# Altium footprint library IC_ST_Microelectronics_L7805CDT-TR_eec_0.PcbLib: 1 footprints
Each footprint in its own frame and in the unit in brackets; x right, y up, seen from the top. Pads: shape width x height; smd on the part's side, far side on the other; paste and mask are expansions set on the pad; w line width, h text height; cw(c..) or ccw(c..) is an arc to the next point about the centre after c.
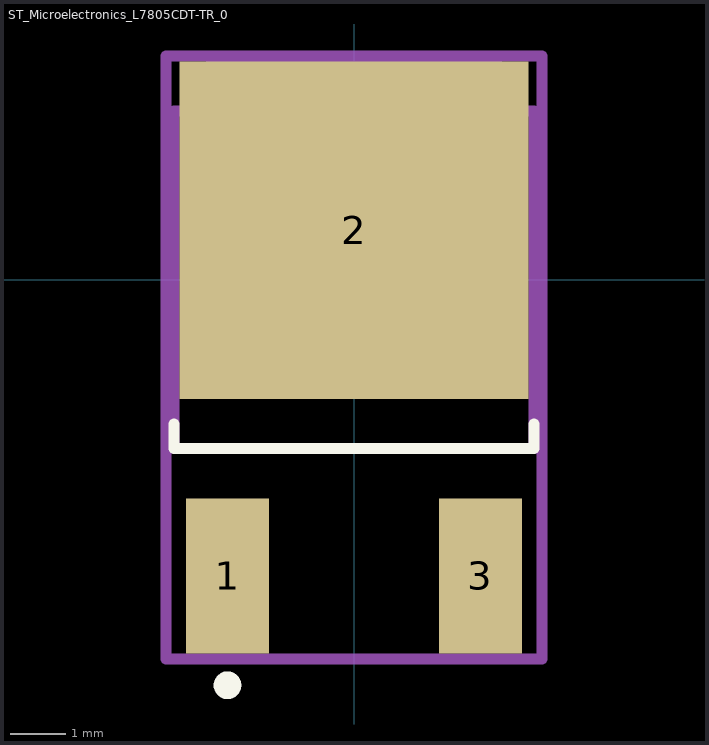
[diagram p0: the footprint, top view; thin cyan lines are the x and y axes]

## ST_Microelectronics_L7805CDT-TR_0 [mm]
pads (3):
  rect 1.5x2.8 smd paste+0 mask+0: 1(-2.286,-5.35) 3(2.286,-5.35)
  rect 6.3x6.1 smd paste+0 mask+0: 2(0,0.9)
Top Overlay:
  circle w0.25: c-2.286,-7.325 r0.125
  lines w0.2: -3.25,-2.6 -3.25,-3.05 3.25,-3.05 ; 3.25,-3.01 3.25,-2.6
Mechanical 10:
  lines w0.2: -3.4,-6.85 3.4,-6.85 3.4,4.05 -3.4,4.05 -3.4,-6.85
  text ".Designator" at 0,-1.4 h1
Mechanical 12:
  lines w0.2: -3.25,-3.05 3.25,-3.05 3.25,3.05 -3.25,3.05 -3.25,-3.05 ; -2.65,3.05 2.65,3.05 2.65,3.85 -2.65,3.85 -2.65,3.05
Mechanical 15:
  lines w0.1: -0.5,0 0.5,0 ; 0,-0.5 0,0.5
  lines w0.2: -3.4,-6.85 3.4,-6.85 3.4,4.05 -3.4,4.05 -3.4,-6.85
3D body "IC_ST_Microelectronics_L7805CDT-TR_eec.STEP": height 0.25, standoff 0, extent -3.4,-6.85 3.4,4.05